# Altium integrated library APHHS1005LZGCK-V.IntLib: 1 symbol
Pins are listed as number, name and electrical type; pins without a type are passive.

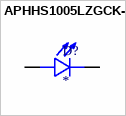
[diagram p0: symbol APHHS1005LZGCK-V]

## APHHS1005LZGCK-V
designator D?
Green 525nm LED Indication - Discrete 2.65V 0402 (1005 Metric); MF: Kingbright Corporation; MP: APHHS1005LZGCK-V; SnapEDA_Link: https://www.snapeda.com/parts/APHHS1005LZGCK-V/Kingbright/view-part/?ref=snap; Package: 0402 Kingbright Corporation; Value: *; Check_prices: https://www.snapeda.com/parts/APHHS1005LZGCK-V/Kingbright/view-part/?ref=eda
footprint LED_APHHS1005LZGCK-V
pins: 1 C, 2 A